# Altium schematic symbol library Components - 15.03.25 - 17.18.SchLib: 1 symbol
Pins are listed as number, name and electrical type; pins without a type are passive.

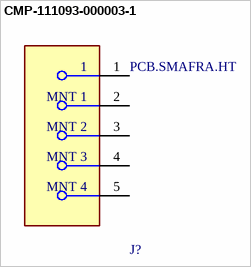
[diagram p0: symbol CMP-111093-000003-1]

## CMP-111093-000003-1
designator J?, comment PCB.SMAFRA.HT
CONN SMA JACK R/A 50OHM PCB; Dielectric Material: PTFE; Max Frequency: 6GHz; Body Material: Brass; Center Contact Plating: Gold; Voltage Rating: 500V; Operating Frequency: 0 to 6 GHz; Number of Ports: 1; Impedance: 50R; Housing Color: Gold; Mount: Through Hole; Orientation: Right Angle; Termination: Solder; Contact Material: Brass; Series: -; Contact Plating: Gold; Fastening Type: Threaded; Connector Type: SMA; Package Quantity: 500; Case/Package: SMA; Body Plating: Gold; Frequency: 6GHz; Packaging: Tray
footprint FP-PCB_SMAFRA_HT-MFG
pins: 1, 2 MNT 1, 3 MNT 2, 4 MNT 3, 5 MNT 4